# Altium footprint library RT1052_EVK_Mini.PcbLib: 27 footprints (part 1 of 2)
Each footprint in its own frame and in the unit in brackets; x right, y up, seen from the top. Pads: shape width x height; smd on the part's side, far side on the other; paste and mask are expansions set on the pad; w line width, h text height; cw(c..) or ccw(c..) is an arc to the next point about the centre after c.
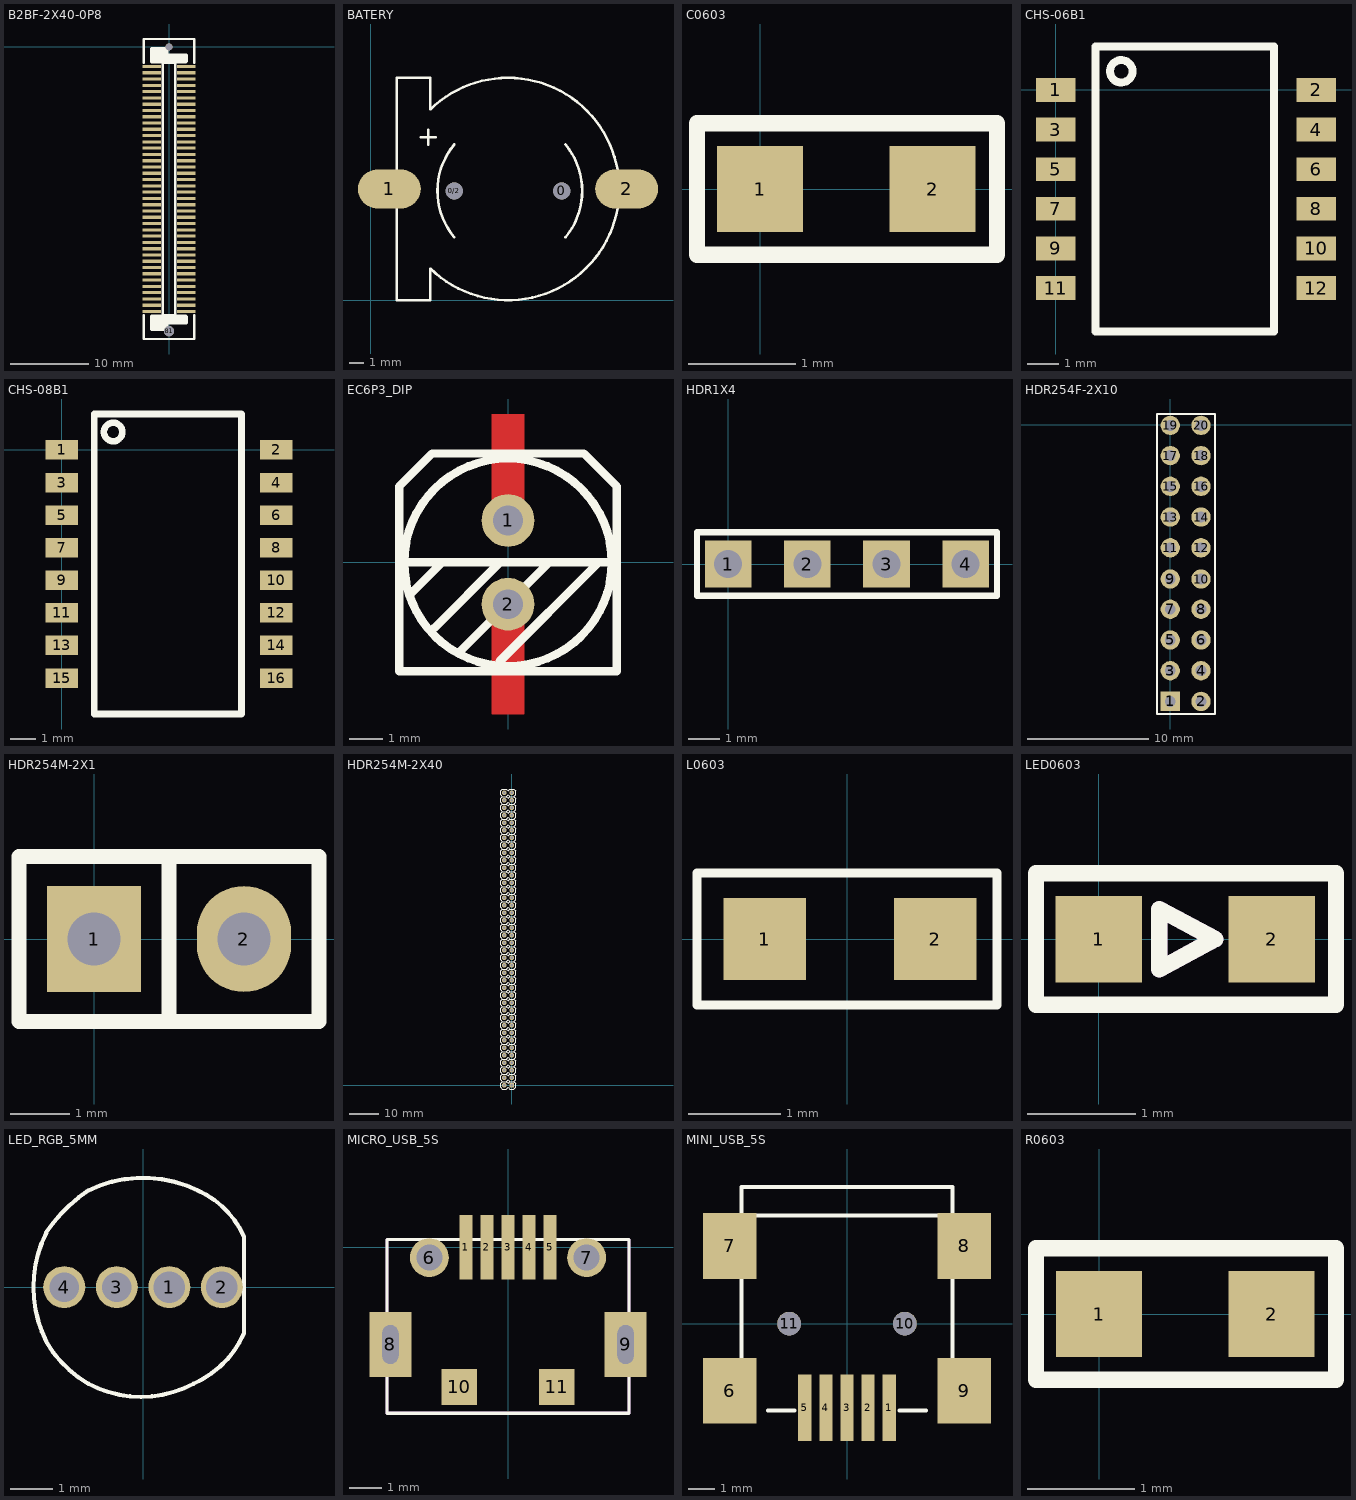
[diagram p0: the footprints below, top view; thin cyan lines are the x and y axes]

## B2BF-2X40-0P8 [mm]
pads (82):
  rect 2.3x0.4 smd: 1(2.2,-2.5) 2(-2.2,-2.5) 3(2.2,-3.3) 4(-2.2,-3.3) 5(2.2,-4.1) 6(-2.2,-4.1) 7(2.2,-4.9) 8(-2.2,-4.9) 9(2.2,-5.7) 10(-2.2,-5.7) 11(2.2,-6.5) 12(-2.2,-6.5) 13(2.2,-7.3) 14(-2.2,-7.3) 15(2.2,-8.1) 16(-2.2,-8.1) 17(2.2,-8.9) 18(-2.2,-8.9) 19(2.2,-9.7) 20(-2.2,-9.7) 21(2.2,-10.5) 22(-2.2,-10.5) 23(2.2,-11.3) 24(-2.2,-11.3) 25(2.2,-12.1) 26(-2.2,-12.1) 27(2.2,-12.9) 28(-2.2,-12.9) 29(2.2,-13.7) 30(-2.2,-13.7) 31(2.2,-14.5) 32(-2.2,-14.5) 33(2.2,-15.3) 34(-2.2,-15.3) 35(2.2,-16.1) 36(-2.2,-16.1) 37(2.2,-16.9) 38(-2.2,-16.9) 39(2.2,-17.7) 40(-2.2,-17.7) 41(2.2,-18.5) 42(-2.2,-18.5) 43(2.2,-19.3) 44(-2.2,-19.3) 45(2.2,-20.1) 46(-2.2,-20.1) 47(2.2,-20.9) 48(-2.2,-20.9) 49(2.2,-21.7) 50(-2.2,-21.7) 51(2.2,-22.5) 52(-2.2,-22.5) 53(2.2,-23.3) 54(-2.2,-23.3) 55(2.2,-24.1) 56(-2.2,-24.1) 57(2.2,-24.9) 58(-2.2,-24.9) 59(2.2,-25.7) 60(-2.2,-25.7) 61(2.2,-26.5) 62(-2.2,-26.5) 63(2.2,-27.3) 64(-2.2,-27.3) 65(2.2,-28.1) 66(-2.2,-28.1) 67(2.2,-28.9) 68(-2.2,-28.9) 69(2.2,-29.7) 70(-2.2,-29.7) 71(2.2,-30.5) 72(-2.2,-30.5) 73(2.2,-31.3) 74(-2.2,-31.3) 75(2.2,-32.1) 76(-2.2,-32.1) 77(2.2,-32.9) 78(-2.2,-32.9) 79(2.2,-33.7) 80(-2.2,-33.7)
  round 1.3 hole 1.3: 81(0,-36.2)
  round 0.9 hole 0.9: 82(0,0)
Top Overlay:
  lines w0.305: -3.2,-34.2 -3.2,-37.2 3.2,-37.2 3.2,-34.2 ; -3.2,-2 -3.2,1 3.2,1 3.2,-2 ; -0.8,-34.2 0.8,-34.2 0.8,-2 -0.8,-2 -0.8,-34.2
  lines w0.5: -2.2,-34.4 -2.2,-35.9 -0.3,-35.9 -0.3,-35.1 2.2,-35.1 2.2,-34.4 ; -2.2,-34.3 2.1,-34.3 ; -2.2,-1.9 2.1,-1.9 ; -2.2,-1.8 -2.2,-0.3 -0.3,-0.3 -0.3,-1.1 2.2,-1.1 2.2,-1.8 ; -2.1,-35.4 -0.4,-35.4 ; -2.1,-35.1 -0.4,-35.1 ; -2.1,-34.7 2.1,-34.7 ; -2.1,-1.5 2.1,-1.5 ; -2.1,-1.1 -0.4,-1.1 ; -2.1,-0.8 -0.4,-0.8

## BATERY [mil]
pads (4):
  round 46 hole 46: 0(515,295) 0/2(225,295)
  oval 169.29x106.3 smd: 1(50,300) 2(690,300)
Top Overlay:
  lines w7: 135,440 175,440 ; 155,420 155,460 ; 160.38,85.39 160,0 70,0 70,300 70,600 160,600 160.38,514.61 ; 160.48,85.29 ccw(c370,300) 668.19,267.08 ; 160.48,514.71 cw(c370,300) 370,600 cw(c370,300) 668.19,332.92 ; 224.77,170.28 cw(c375,295) 224.99,419.99 ; 525.01,170.01 ccw(c375,295) 525.01,419.99

## C0603 [mm]
pads (2):
  rect 0.8x0.8 smd: 1(0,0) 2(1.6,0)
Top Overlay:
  lines w0.152: -0.584,-0.61 2.197,-0.61 2.197,0.61 -0.584,0.61 -0.584,-0.61

## CHS-06B1 [mm]
pads (12):
  rect 1.27x0.76 smd: 1(0,0) 2(8.35,0) 3(0,-1.27) 4(8.35,-1.27) 5(0,-2.54) 6(8.35,-2.54) 7(0,-3.81) 8(8.35,-3.81) 9(0,-5.08) 10(8.35,-5.08) 11(0,-6.35) 12(8.35,-6.35)
Top Overlay:
  circle w0.254: c2.1,0.6 r0.361
  lines w0.254: 1.27,-7.75 7,-7.75 7,1.4 1.27,1.4 1.27,-7.75

## CHS-08B1 [mm]
pads (16):
  rect 1.27x0.76 smd: 1(0,0) 2(8.35,0) 3(0,-1.27) 4(8.35,-1.27) 5(0,-2.54) 6(8.35,-2.54) 7(0,-3.81) 8(8.35,-3.81) 9(0,-5.08) 10(8.35,-5.08) 11(0,-6.35) 12(8.35,-6.35) 13(0,-7.62) 14(8.35,-7.62) 15(0,-8.89) 16(8.35,-8.89)
Top Overlay:
  circle w0.254: c2,0.7 r0.361
  lines w0.254: 1.27,-10.29 7,-10.29 7,1.4 1.27,1.4 1.27,-10.29

## EC6P3_DIP [mm]
pads (2):
  round 1.6 hole 0.9: 1(0,1.27) 2(0,-1.27)
Top Layer:
  region: -0.5,4.5 0.5,4.5 0.5,1.7 -0.5,1.7
  region: 0.5,-4.6 -0.5,-4.6 -0.5,-1.6 0.5,-1.6
Top Overlay:
  circle w0.254: c0,0 r3.15
  lines w0.254: -3,-1 -2,0 ; -3,0 3,0 ; -2.25,-2 -0.25,0 ; -1.5,-2.75 1.25,0 ; -0.25,-3 2.75,0 ; -3.3,-3.3 3.3,-3.3 3.3,2.3 2.3,3.3 -2.3,3.3 -3.3,2.3 -3.3,-3.3
Top Paste:
  region: -0.5,4.5 0.5,4.5 0.5,2.6 -0.5,2.6
  region: 0.5,-4.6 -0.5,-4.6 -0.5,-2.4 0.5,-2.4
Top Solder:
  region: -0.5,4.5 0.5,4.5 0.5,2.6 -0.5,2.6
  region: -0.5,-2.7 0.5,-2.7 0.5,-4.6 -0.5,-4.6

## HDR1X4 [mm]
height 1.2
pads (4):
  rect 1.5x1.5 hole 0.9: 1(0,0) 2(2.54,0) 3(5.08,0) 4(7.62,0)
Top Overlay:
  lines w0.2: -1,-1.016 8.625,-1.016 8.625,1.016 -1,1.016 -1,-1.016

## HDR254F-2X10 [mm]
pads (20):
  rect 1.6x1.6 hole 0.9: 1(0,-22.86)
  round 1.6 hole 0.9: 2(2.54,-22.86) 3(0,-20.32) 4(2.54,-20.32) 5(0,-17.78) 6(2.54,-17.78) 7(0,-15.24) 8(2.54,-15.24) 9(0,-12.74) 10(2.54,-12.74) 11(0,-10.16) 12(2.54,-10.16) 13(0,-7.62) 14(2.54,-7.62) 15(0,-5.08) 16(2.54,-5.08) 17(0,-2.54) 18(2.54,-2.54) 19(0,-0.04) 20(2.54,-0.04)
Top Overlay:
  lines w0.15: -1.1,-23.9 3.7,-23.9 3.7,0.9 -1.1,0.9 -1.1,-23.9

## HDR254M-2X1 [mm]
pads (2):
  rect 1.6x1.8 hole 0.9: 1(0,0)
  oval 1.6x1.8 hole 0.9: 2(2.54,0)
Top Overlay:
  lines w0.254: 1.27,-1.4 1.27,1.4 ; -1.27,-1.4 3.81,-1.4 3.81,1.4 -1.27,1.4 -1.27,-1.4

## HDR254M-2X40 [mil]
pads (80):
  rrect0% 62x62 hole 35.43: 1(0,0)
  round 62 hole 35.43: 2(-100,0) 3(0,100) 4(-100,100) 5(0,200) 6(-100,200) 7(0,300) 8(-100,300) 9(0,400) 10(-100,400) 11(0,500) 12(-100,500) 13(0,600) 14(-100,600) 15(0,700) 16(-100,700) 17(0,800) 18(-100,800) 19(0,900) 20(-100,900) 21(0,1000) 22(-100,1000) 23(0,1100) 24(-100,1100) 25(0,1200) 26(-100,1200) 27(0,1300) 28(-100,1300) 29(0,1400) 30(-100,1400) 31(0,1500) 32(-100,1500) 33(0,1600) 34(-100,1600) 35(0,1700) 36(-100,1700) 37(0,1800) 38(-100,1800) 39(0,1900) 40(-100,1900) 41(0,2000) 42(-100,2000) 43(0,2100) 44(-100,2100) 45(0,2200) 46(-100,2200) 47(0,2300) 48(-100,2300) 49(0,2400) 50(-100,2400) 51(0,2500) 52(-100,2500) 53(0,2600) 54(-100,2600) 55(0,2700) 56(-100,2700) 57(0,2800) 58(-100,2800) 59(0,2900) 60(-100,2900) 61(0,3000) 62(-100,3000) 63(0,3100) 64(-100,3100) 65(0,3200) 66(-100,3200) 67(0,3300) 68(-100,3300) 69(0,3400) 70(-100,3400) 71(0,3500) 72(-100,3500) 73(0,3600) 74(-100,3600) 75(0,3700) 76(-100,3700) 77(0,3800) 78(-100,3800) 79(0,3900) 80(-100,3900)
Top Overlay:
  drawing of 560 lines, arcs and shapes, not listed

## L0603 [mil]
pads (2):
  rect 35x35 smd: 1(-35,0) 2(37.49,0)
Top Overlay:
  lines w3.94: -63.74,-28 63.74,-28 63.74,28 -63.74,28 -63.74,-28

## LED0603 [mm]
pads (2):
  rect 0.8x0.8 smd: 1(0,0) 2(1.6,0)
Top Overlay:
  lines w0.152: -0.579,-0.605 2.193,-0.605 2.193,0.607 -0.579,0.607 -0.579,-0.605 ; 0.562,-0.277 1.076,0.001 0.562,0.277 0.562,-0.277
Mechanical 1:
  lines w0.152: 0.562,-0.277 1.076,0.001 0.562,0.277 0.562,-0.277

## LED_RGB_5MM [mm]
pads (4):
  round 1 hole 0.75: 1(0.625,0) 2(1.875,0)
  round 1 hole 0.7: 3(-0.625,0) 4(-1.875,0)
Top Overlay:
  lines w0.1: -2.301,1.297 ccw(c0.3,0) -2.299,-1.302 ; -2.299,-1.301 ccw(c0.05,0.05) -1.301,-2.299 ; -2.299,1.302 cw(c0.65,-0.65) -1.297,2.302 ; -1.3,-2.3 ccw(c-0.05,0.05) 1.2,-2.3 ; -1.299,2.301 cw(c0,-0.35) 1.303,2.298 ; 1.202,-2.299 ccw(c0.25,-0.15) 2.401,-1.099 ; 1.302,2.299 cw(c0.45,0.35) 2.401,1.198 ; 2.4,-1.1 2.4,1.2

## MICRO_USB_5S [mm]
pads (11):
  rect 0.4x2 smd: 1(-1.3,0) 2(-0.65,0) 3(0,0) 4(0.65,0) 5(1.3,0)
  round 1.2 hole 0.8: 6(-2.425,-0.32) 7(2.425,-0.32)
  rect 1.3x2 hole 0.5 slot 1.2 at 90 deg: 8(-3.625,-3) 9(3.625,-3)
  rect 1.1x1.1 smd: 10(-1.5,-4.31) 11(1.5,-4.31)
Top Overlay:
  lines w0.1: -3.73,-5.12 3.73,-5.12 3.73,0.235 -3.73,0.235 -3.73,-5.12
Mechanical 1:
  lines w0.1: -3.73,-5.12 3.73,-5.12 3.73,0.235 -3.73,0.235 -3.73,-5.12

## MINI_USB_5S [mm]
pads (11):
  rect 0.508x2.54 smd: 1(1.6,-3.2) 2(0.8,-3.2) 3(0,-3.2) 4(-0.8,-3.2) 5(-1.6,-3.2)
  rect 2.032x2.5 smd: 6(-4.45,-2.55) 7(-4.45,2.95) 8(4.45,2.95) 9(4.45,-2.55)
  round 0.9 hole 0.9 unplated: 10(2.2,0) 11(-2.2,0)
Top Overlay:
  lines w0.152: -4,-1.5 -4,1.9 ; -4,4 -4,5.2 4,5.2 4,4 ; -4,4.1 4,4.1 ; -3,-3.3 -2,-3.3 ; 2,-3.3 3,-3.3 ; 4,-1.5 4,1.9

## R0603 [mm]
pads (2):
  rect 0.8x0.8 smd: 1(0,0) 2(1.6,0)
Top Overlay:
  lines w0.152: -0.584,-0.61 2.197,-0.61 2.197,0.61 -0.584,0.61 -0.584,-0.61